# EAGLE library part NRJ6HF (library con-neutrik_ag)
1/4" Stereo Phone Connector
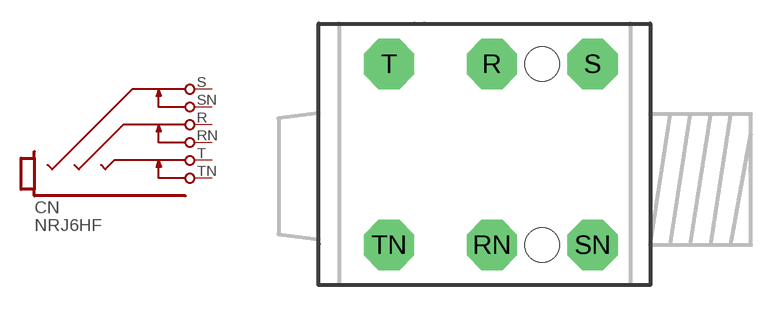
[diagram p2: symbol with the pads of NRJ6HF; footprint NRJ6HF]

Designator prefix CN

## NRJ6HF  [NRJ6HF]
R  R  pas
RN  RN  pas
S  S  pas
SN  SN  pas
T  T  pas
TN  TN  pas

## Footprint NRJ6HF (pad centres in mm)
1/4" Stereo Phone Connector
drill 1.676 pad 3.175 octagon: R 2.055,7.25; RN 2.055,-4.18; S 8.414,7.25; SN 8.414,-4.18; T -4.445,7.25; TN -4.445,-4.18
hole 2.184 at 5.239,7.25
hole 2.184 at 5.239,-4.18